# Altium footprint library REFLOW_CONTROLLER.PcbLib: 27 footprints (part 1 of 2)
Each footprint in its own frame and in the unit in brackets; x right, y up, seen from the top. Pads: shape width x height; smd on the part's side, far side on the other; paste and mask are expansions set on the pad; w line width, h text height; cw(c..) or ccw(c..) is an arc to the next point about the centre after c.
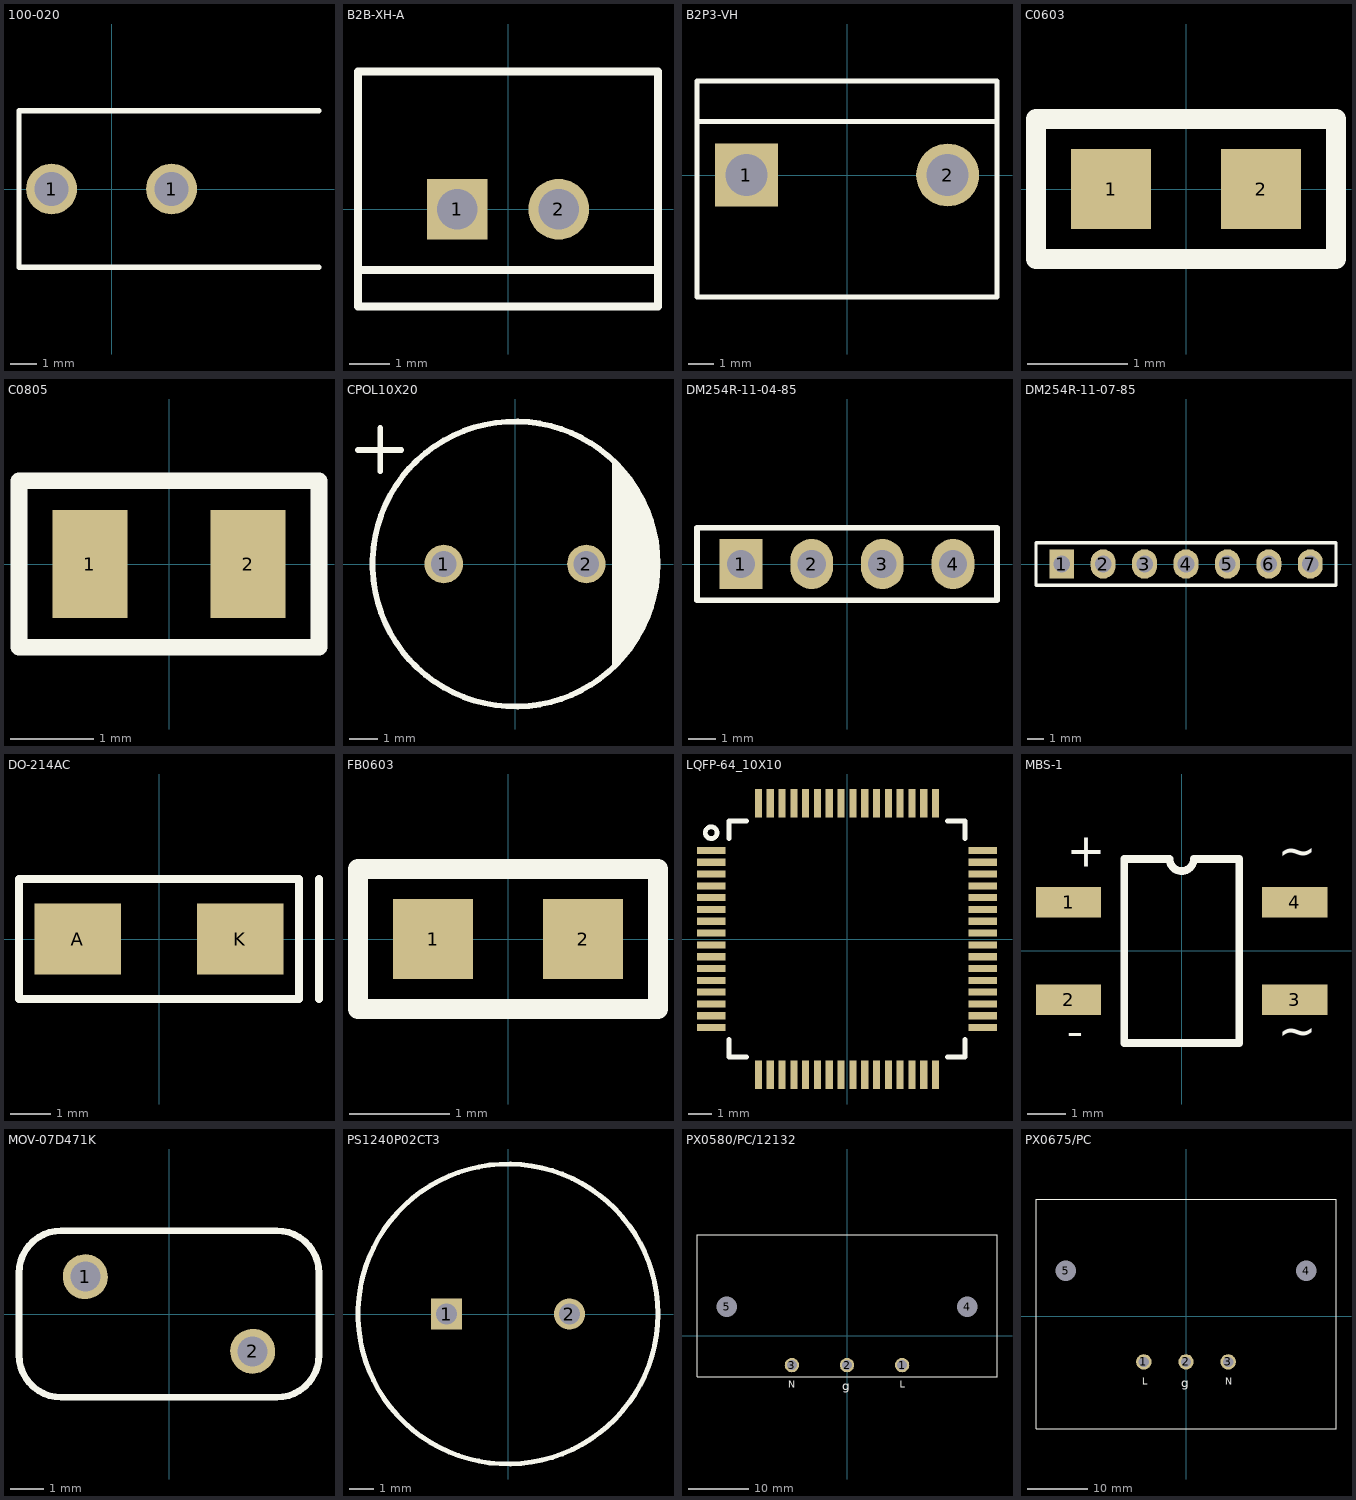
[diagram p0: the footprints below, top view; thin cyan lines are the x and y axes]

## 100-020 [mm]
pads (2):
  round 1.95 hole 1.3: 1(-2.3,0) 1(2.3,0)
Top Overlay:
  lines w0.2: 7.95,-3 -3.55,-3 -3.55,3 7.95,3
3D body: height 10.18, standoff -4.14, extent -2.4,-2.615 2.4,2.616

## B2B-XH-A [mm]
pads (2):
  rect 1.5x1.5 hole 1: 1(-1.25,0)
  round 1.5 hole 1: 2(1.25,0)
Top Overlay:
  lines w0.2: -3.7,-1.5 3.7,-1.5 ; -3.7,-2.4 3.7,-2.4 3.7,3.4 -3.7,3.4 -3.7,-2.4
3D body: height 7, standoff -3.4, extent -3.7,-2.4 3.7,3.35

## B2P3-VH [mm]
pads (2):
  rect 2.475x2.475 hole 1.65: 1(-3.96,0)
  round 2.475 hole 1.65: 2(3.96,0)
Top Overlay:
  lines w0.2: -5.9,2.1 5.9,2.1 ; -5.9,-4.8 5.9,-4.8 5.9,3.7 -5.9,3.7 -5.9,-4.8
3D body: height 10.9, standoff -3.7, extent -5.91,-4.8 5.91,3.7

## C0603 [mm]
pads (2):
  rect 0.8x0.8 smd: 1(-0.75,0) 2(0.75,0)
Top Overlay:
  lines w0.2: -1.5,-0.7 -1.5,0.7 1.5,0.7 1.5,-0.7 -1.5,-0.7
3D body: height 0.8, standoff 0, extent -0.8,-0.4 0.8,0.4

## C0805 [mm]
pads (2):
  rect 0.9x1.3 smd: 1(-0.95,0) 2(0.95,0)
Top Overlay:
  lines w0.2: -1.8,-1 -1.8,1 1.8,1 1.8,-1 -1.8,-1
3D body: height 0.8, standoff 0, extent -1,-0.625 1,0.625

## CPOL10X20 [mm]
pads (2):
  round 1.35 hole 0.9: 1(-2.5,0) 2(2.5,0)
Top Overlay:
  circle w0.2: c0,0 r5
  region: 3.5,-3.5 3.653,-3.361 4.053,-2.905 4.389,-2.401 4.657,-1.858 4.852,-1.284 4.97,-0.69 5.01,-0.086 5,-0.086 5.009,0.293 4.974,0.832 4.868,1.362 4.694,1.873 4.456,2.358 4.155,2.807 3.799,3.213 3.793,3.207 3.5,3.5
  lines w0.2: -5.508,4 -3.992,4 ; -4.726,3.25 -4.726,4.766 ; 3.5,-3.5 3.5,3.5
3D body: height 21.16, standoff -3.15, extent -5.11,-5.099 5.109,5.1

## DM254R-11-04-85 [mm]
pads (4):
  rect 1.53x1.8 hole 1.02: 1(-3.81,0)
  oval 1.53x1.8 hole 1.02: 2(-1.27,0) 3(1.27,0) 4(3.81,0)
Top Overlay:
  lines w0.2: -5.39,-1.3 -5.39,1.3 5.39,1.3 5.39,-1.3 -5.39,-1.3
3D body: height 8.5, standoff -3, extent -5.33,-1.27 5.33,1.27

## DM254R-11-07-85 [mm]
pads (7):
  rect 1.53x1.8 hole 1.02: 1(-7.62,0)
  oval 1.53x1.8 hole 1.02: 2(-5.08,0) 3(-2.54,0) 4(0,0) 5(2.54,0) 6(5.08,0) 7(7.62,0)
Top Overlay:
  lines w0.2: -9.2,-1.3 -9.2,1.3 9.2,1.3 9.2,-1.3 -9.2,-1.3
3D body: height 8.5, standoff -3, extent -9.14,-1.27 9.14,1.27

## DO-214AC [mil]
pads (2):
  rect 85x70 smd: A(-80,0) K(80,0)
Top Overlay:
  lines w7.87: 157.48,-59.06 157.48,59.06 ; -137.8,-59.06 137.8,-59.06 137.8,59.06 -137.8,59.06 -137.8,-59.06
3D body: height 94.59, standoff 0, extent -102.36,-51.19 102.36,51.17

## FB0603 [mm]
pads (2):
  rect 0.8x0.8 smd: 1(-0.75,0) 2(0.75,0)
Top Overlay:
  lines w0.2: -1.5,-0.7 1.5,-0.7 1.5,0.7 -1.5,0.7 -1.5,-0.7
3D body: height 0.8, standoff 0, extent -0.8,-0.4 0.8,0.4

## LQFP-64_10X10 [mm]
pads (64):
  rect 1.2x0.3 smd: 1(-5.75,3.75) 2(-5.75,3.25) 3(-5.75,2.75) 4(-5.75,2.25) 5(-5.75,1.75) 6(-5.75,1.25) 7(-5.75,0.75) 8(-5.75,0.25) 9(-5.75,-0.25) 10(-5.75,-0.75) 11(-5.75,-1.25) 12(-5.75,-1.75) 13(-5.75,-2.25) 14(-5.75,-2.75) 15(-5.75,-3.25) 16(-5.75,-3.75) 33(5.75,-3.75) 34(5.75,-3.25) 35(5.75,-2.75) 36(5.75,-2.25) 37(5.75,-1.75) 38(5.75,-1.25) 39(5.75,-0.75) 40(5.75,-0.25) 41(5.75,0.25) 42(5.75,0.75) 43(5.75,1.25) 44(5.75,1.75) 45(5.75,2.25) 46(5.75,2.75) 47(5.75,3.25) 48(5.75,3.75)
  rect 0.3x1.2 smd: 17(-3.75,-5.75) 18(-3.25,-5.75) 19(-2.75,-5.75) 20(-2.25,-5.75) 21(-1.75,-5.75) 22(-1.25,-5.75) 23(-0.75,-5.75) 24(-0.25,-5.75) 25(0.25,-5.75) 26(0.75,-5.75) 27(1.25,-5.75) 28(1.75,-5.75) 29(2.25,-5.75) 30(2.75,-5.75) 31(3.25,-5.75) 32(3.75,-5.75) 49(3.75,5.75) 50(3.25,5.75) 51(2.75,5.75) 52(2.25,5.75) 53(1.75,5.75) 54(1.25,5.75) 55(0.75,5.75) 56(0.25,5.75) 57(-0.25,5.75) 58(-0.75,5.75) 59(-1.25,5.75) 60(-1.75,5.75) 61(-2.25,5.75) 62(-2.75,5.75) 63(-3.25,5.75) 64(-3.75,5.75)
Top Overlay:
  circle w0.2: c-5.75,4.5 r0.25
  lines w0.2: -5,-4.25 -5,-5 -4.25,-5 ; -5,4.25 -5,5 -4.25,5 ; 4.25,-5 5,-5 5,-4.25 ; 4.25,5 5,5 5,4.25
3D body: height 1.6, standoff 0, extent -6,-6 6,6

## MBS-1 [mm]
pads (4):
  rect 1.7x0.8 smd: 1(-2.95,1.27) 2(-2.95,-1.27) 3(2.95,-1.27) 4(2.95,1.27)
Top Overlay:
  lines w0.2: -1.5,-2.4 -1.5,2.4 -0.316,2.4 ccw(c0,2.4) 0.316,2.4 1.5,2.4 1.5,-2.4 -1.5,-2.4
  text "~" at 2.5,1.9 h1.52
  text "~" at 2.5,-2.8 h1.52
  text "-" at -3,-2.8 h1.52
  text "+" at -3,1.9 h1.52
3D body: height 2.9, standoff 0, extent -3.35,-2.362 3.35,2.363

## MOV-07D471K [mm]
pads (2):
  round 1.35 hole 0.9: 1(-2.512,1.118) 2(2.512,-1.119)
Top Overlay:
  lines w0.2: -4.5,-1.23 ccw(c-3.23,-1.23) -3.23,-2.5 3.23,-2.5 ccw(c3.23,-1.23) 4.5,-1.23 4.5,1.23 ccw(c3.23,1.23) 3.23,2.5 -3.23,2.5 ccw(c-3.23,1.23) -4.5,1.23 -4.5,-1.23
3D body: height 14.5, standoff -14.5, extent -4.5,-2.5 4.5,2.5

## PS1240P02CT3 [mm]
pads (2):
  rect 1.275x1.275 hole 0.85: 1(-2.5,0)
  round 1.275 hole 0.85: 2(2.5,0)
Top Overlay:
  circle w0.2: c0,0 r6.1
3D body: height 4.25, standoff -3.35, extent -6.1,-6.1 6.1,6.1

## PX0580/PC/12132 [mm]
pads (5):
  round 2.4 hole 1.6: 1(9.14,-4.825) 2(0,-4.825) 3(-9.14,-4.825)
  round 2.4 hole 3.4 unplated: 4(20,4.825) 5(-20,4.825)
Top Overlay:
  lines w0.2: -24.9,-6.8 24.9,-6.8 24.9,16.8 -24.9,16.8 -24.9,-6.8
  text "L" at 8.75,-9 h2
  text "N" at -9.75,-9 h2
  text "g" at -0.75,-9.5 h2.5
3D body: height 27.76, standoff -3.67, extent -24.88,-6.8 24.88,16.8

## PX0675/PC [mm]
pads (5):
  round 2.55 hole 1.7: 1(-7,-7.55) 2(0,-7.55) 3(7,-7.55)
  round 2.4 hole 3.4 unplated: 4(20,7.55) 5(-20,7.55)
Top Overlay:
  lines w0.2: -24.9,-18.65 24.9,-18.65 24.9,19.45 -24.9,19.45 -24.9,-18.65
  text "L" at -7.25,-11.75 h2
  text "N" at 6.5,-11.75 h2
  text "g" at -0.75,-12.225 h2.5
3D body: height 30.3, standoff -3.7, extent -24.9,-18.65 24.9,19.387